# EAGLE library part 1X7_LONG (library pins_1.27mm_pitch)
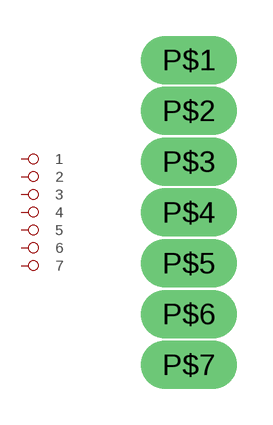
[diagram p2: symbol with the pads of 1X7_LONG; footprint 1X7_LONG]

Designator prefix -

## 1X7_LONG  [1X7_LONG]
P$1  1
P$2  2
P$3  3
P$4  4
P$5  5
P$6  6
P$7  7

## Footprint 1X7_LONG (pad centres in mm)
drill 0.7 pad 1 long: P$1 0,0; P$2 0,-1.27; P$3 0,-2.54; P$4 0,-3.81; P$5 0,-5.08; P$6 0,-6.35; P$7 0,-7.62